# EAGLE library part IMU04A (library IMU)
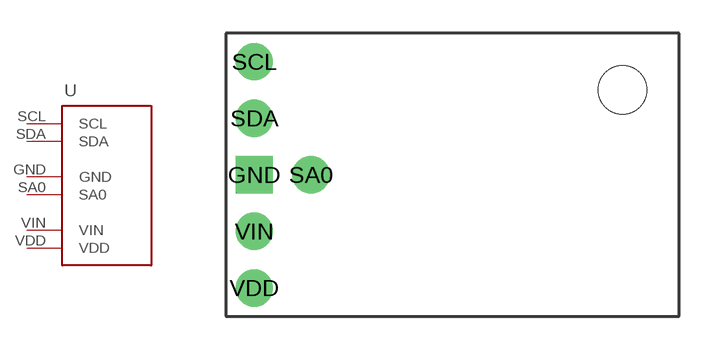
[diagram p0: symbol with the pads of IMU04A; footprint IMU04A]

Designator prefix -

## IMU04A  [IMU04A]
GND  GND
SA0  SA0
SCL  SCL
SDA  SDA
VDD  VDD
VIN  VIN

## Footprint IMU04A (pad centres in mm)
drill 0.9 pad 1.676 square: GND 0,0
drill 0.9 pad 1.676: SA0 2.54,0; SCL 0,5.08; SDA 0,2.54; VDD 0,-5.08; VIN 0,-2.54
hole 2.18 at 16.51,3.81